# Altium schematic symbol library 1827923.SchLib: 1 symbol
Pins are listed as number, name and electrical type; pins without a type are passive.

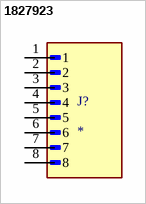
[diagram p0: symbol 1827923]

## 1827923
designator J?
Pluggable Header 3.81mm 16AWG 160V 8A 8 Position COMBICON MC Series | Phoenix Contact 1827923; SnapEDA_Link: https://www.snapeda.com/parts/1827923/Phoenix+Contact/view-part/?ref=snap; Package: None; Value: *; MF: Phoenix Contact; MP: 1827923; Check_prices: https://www.snapeda.com/parts/1827923/Phoenix+Contact/view-part/?ref=eda
footprint PHOENIX_1827923
pins: 1, 2, 3, 4, 5, 6, 7, 8